# Altium schematic symbol library LED_CHIP.SchLib: 1 symbol
Pins are listed as number, name and electrical type; pins without a type are passive.

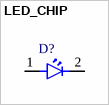
[diagram p0: symbol LED_CHIP]

## LED_CHIP
designator D?
=Description
pins: 1, 2